# Altium schematic symbol library Chess Clock Front Display.SchLib: 8 symbols
Pins are listed as number, name and electrical type; pins without a type are passive.

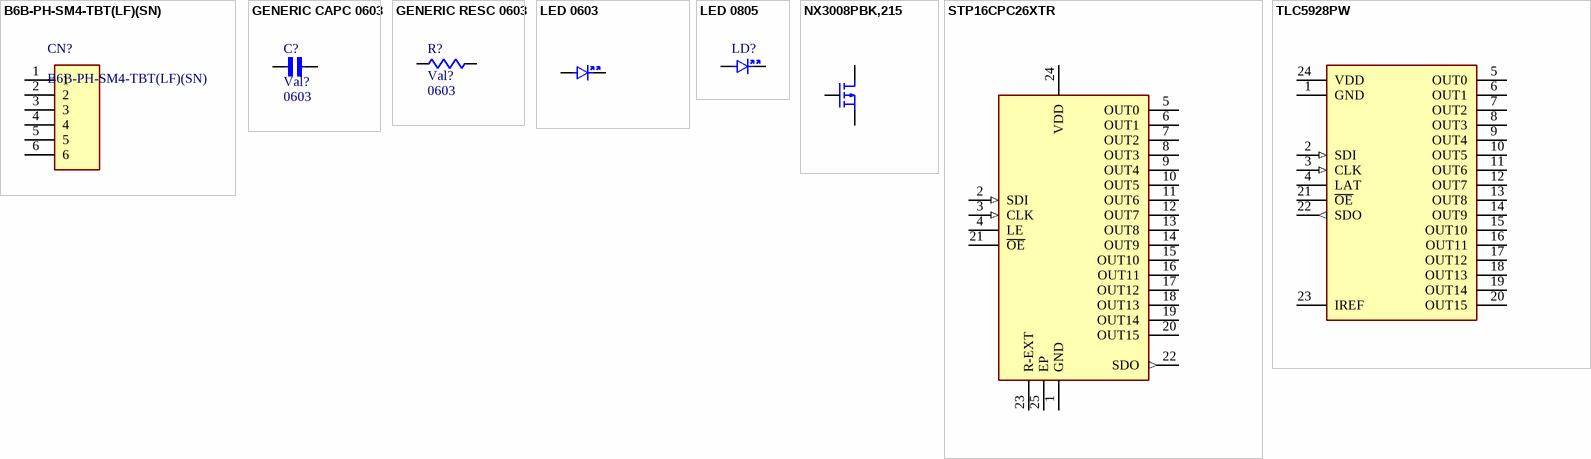
[diagram p0: symbols B6B-PH-SM4-TBT(LF)(SN) to TLC5928PW]

## B6B-PH-SM4-TBT(LF)(SN)
designator CN?
Connector Header Surface Mount 6 position 0.079" (2.00mm)
footprint B6B-PH-SM4-TBT(LF)(SN) (CONN HEADER SMD 6POS 2MM)
pins: 1, 2, 3, 4, 5, 6

## GENERIC CAPC 0603
designator C?, comment Val?  Package: 0603
Generic 0603 Capacitors; Manufacturer: -; Manufacturer Part Number: -; Supplier 1: Digi-Key; Supplier Part Number 1: -; Supplier 2: LCSC; Supplier Part Number 2: -; Categories: Capacitors; Capacitance: Val?; Voltage - Rated: -; Temperature Coefficient: -; Tolerance: -
footprint CAPC0603X08N (Chip Capacitor, 2-Leads, Body 1.60x0.80mm, IPC Medium Density)
pins: 1, 2

## GENERIC RESC 0603
designator R?, comment Val?  Package: 0603
Generic 0603 1%/5% Resistor; Categories: Resistors; Manufacturer: -; Manufacturer Part Number: -; Supplier 1: Digi-Key; Supplier Part Number 1: -; Supplier 2: LCSC; Supplier Part Number 2: -; Temperature Coefficient: -; Tolerance: -; Power (Watts): -; Resistance: Val?
footprint RESC0603X04N (Chip Resistor, 2-Leads, Body 1.60x0.80mm, IPC Medium Density)
pins: 1, 2

## LED 0603
designator LD?  (value not drawn)
Categories: LED; Manufacturer: -; Manufacturer Part Number: -; Package: 0603; Supplier 1: Digi-Key; Supplier 2: LCSC; Supplier Part Number 1: -; Supplier Part Number 2: -
footprint LED 0603
pins: 1, 2

## LED 0805
designator LD?  (value not drawn)
Categories: LED; Manufacturer: -; Manufacturer Part Number: -; Package: 0805; Supplier 1: Digi-Key; Supplier 2: LCSC; Supplier Part Number 1: -; Supplier Part Number 2: -
footprint LED 0805
pins: 1, 2

## NX3008PBK,215
designator Q?
P-Channel 30V 230mA (Ta) 350mW (Ta), 1.14W (Tc) Surface Mount TO-236AB; Manufacturer: Nexperia USA Inc.; Categories: Transistors; Manufacturer Part Number: NX3008PBK,215; Package: TO-236AB; Supplier 1: Digi-Key; Supplier 2: LCSC; Supplier Part Number 1: 1727-1281-1-ND; Supplier Part Number 2: C131670
footprint NX3008PBK,215 (SOT23, 3-Leads, Body 2.90x2.30mm, Pitch 0.95mm, IPC Medium Density)
pins: 1, 2, 3

## STP16CPC26XTR
designator U?
LED Driver IC 16 Output Linear Shift Register Analog Dimming 90mA 24-TSSOP-EP; Manufacturer: STMicroelectronics; Categories: LED Drivers; Manufacturer Part Number: STP16CPC26XTR; Package: 24-TSSOP-EP; Supplier 1: Digi-Key; Supplier 2: LCSC; Supplier Part Number 1: 497-11986-1-ND; Supplier Part Number 2: C411391
footprint STP16CPC26XTR (TSOP, 24-Leads, Body 7.80x4.40mm, Pitch 0.65mm, Thermal Pad 5.20x3.40mm, IPC Medium Density)
pins: 1 GND, 2 SDI (in), 3 CLK (in), 4 LE, 5 OUT0, 6 OUT1, 7 OUT2, 8 OUT3, 9 OUT4, 10 OUT5, 11 OUT6, 12 OUT7, 13 OUT8, 14 OUT9, 15 OUT10, 16 OUT11, 17 OUT12, 18 OUT13, 19 OUT14, 20 OUT15, 21 ~{OE}, 22 SDO (out), 23 R-EXT, 24 VDD, 25 EP

## TLC5928PW
designator U?
LED Driver IC 16 Output Linear Shift Register  Dimming 35mA 24-TSSOP; Manufacturer: Texas Instruments; Categories: LED Drivers; Manufacturer Part Number: TLC5928PW; Package: 24-TSSOP; Supplier 1: Digi-Key; Supplier 2: LCSC; Supplier Part Number 1: 296-23819-5-ND; Supplier Part Number 2: C1554293
footprint TSOP65P640X120-24N (TSOP, 24-Leads, Body 7.80x4.40mm, Pitch 0.65mm, IPC Medium Density)
pins: 1 GND, 2 SDI (in), 3 CLK (in), 4 LAT, 5 OUT0, 6 OUT1, 7 OUT2, 8 OUT3, 9 OUT4, 10 OUT5, 11 OUT6, 12 OUT7, 13 OUT8, 14 OUT9, 15 OUT10, 16 OUT11, 17 OUT12, 18 OUT13, 19 OUT14, 20 OUT15, 21 ~{OE}, 22 SDO (out), 23 IREF, 24 VDD